# Altium schematic symbol library Addons.SCHLIB: 1 symbol
Pins are listed as number, name and electrical type; pins without a type are passive.

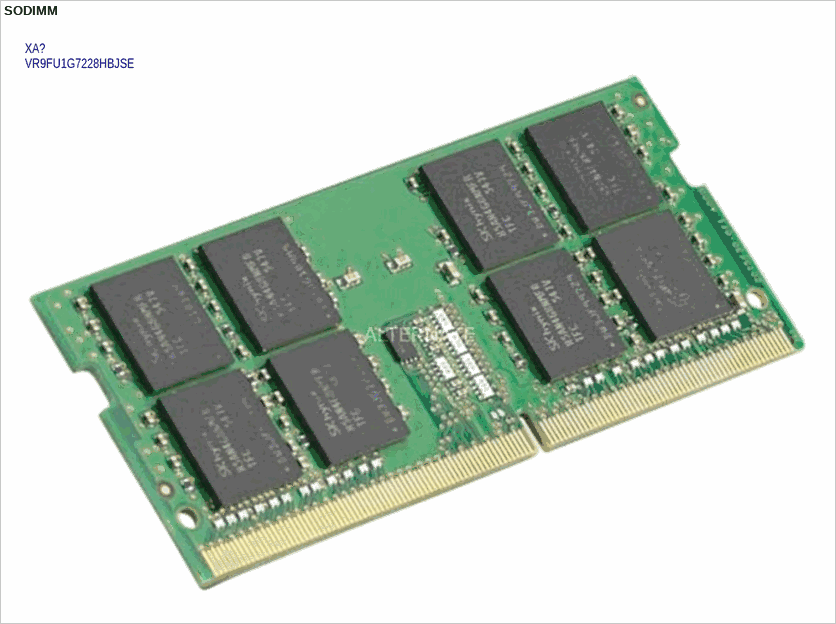
[diagram p0: symbol SODIMM]

## SODIMM
designator XA?, comment VR9FU1G7228HBJSE
DDR4 8GB ECC SODIMM; Manufacturer: Viking Technology; Supplier 1: DigiKey; Supplier Part Number 1: 1803-1060-ND; ComponentLink1Description: Supplier Info; ComponentLink1URL: https://www.digikey.de/products/en/memory-cards-modules/memory-modules/505?k=SODIMM+260&k=&pkeyword=SODIMM+260&sv=0&pv143=489&sf=0&FV=ffe001f9%2Cfffc070b&quantity=&ColumnSort=0&page=1&pageSize=25; ComponentLink2Description: Datasheet; ComponentLink2URL: http://www.vikingtechnology.com/wp-content/uploads/Viking_MemorySolutions_Brochure_LowRes.pdf; Manufacturer Part Number: VR9FU1G7228HBJSE; Value: VR9FU1G7228HBJSE
footprint SODIMM (Generic 260 Pin SODIMM)